# EAGLE library part PCA9518 (library lpatiny)
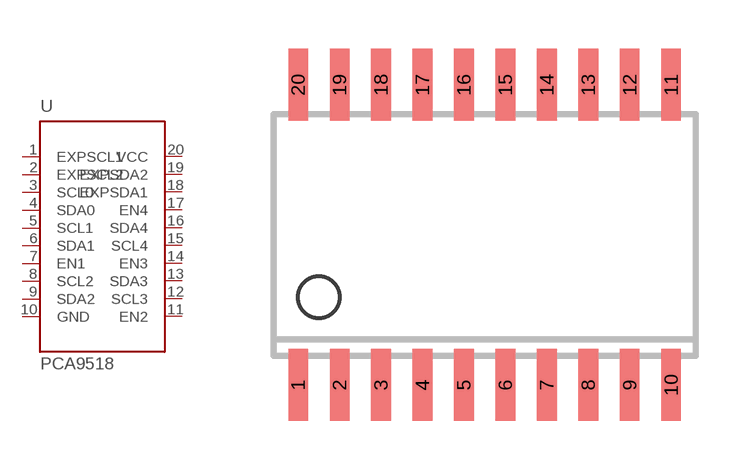
[diagram p11: symbol with the pads of SO20W; footprint SO20W]

Designator prefix -

## PCA9518  [SO20W]
1  EXPSCL1
2  EXPSCL2
3  SCL0
4  SDA0
5  SCL1
6  SDA1
7  EN1  in
8  SCL2
9  SDA2
10  GND  pwr
11  EN2  in
12  SCL3
13  SDA3
14  EN3  in
15  SCL4
16  SDA4
17  EN4  in
18  EXPSDA1
19  EXPSDA2
20  VCC  pwr

## Footprint SO20W (pad centres in mm)
Small Outline Package 7.6 x 13.2 mm
smd 0.6 x 2.2: 1 -5.715,-4.6; 2 -4.445,-4.6; 3 -3.175,-4.6; 4 -1.905,-4.6; 5 -0.635,-4.6; 6 0.635,-4.6; 7 1.905,-4.6; 8 3.175,-4.6; 9 4.445,-4.6; 10 5.715,-4.6; 11 5.715,4.6; 12 4.445,4.6; 13 3.175,4.6; 14 1.905,4.6; 15 0.635,4.6; 16 -0.635,4.6; 17 -1.905,4.6; 18 -3.175,4.6; 19 -4.445,4.6; 20 -5.715,4.6